# Altium schematic symbol library OPCODE_DECODE.SchLib: 2 symbols
Pins are listed as number, name and electrical type; pins without a type are passive.

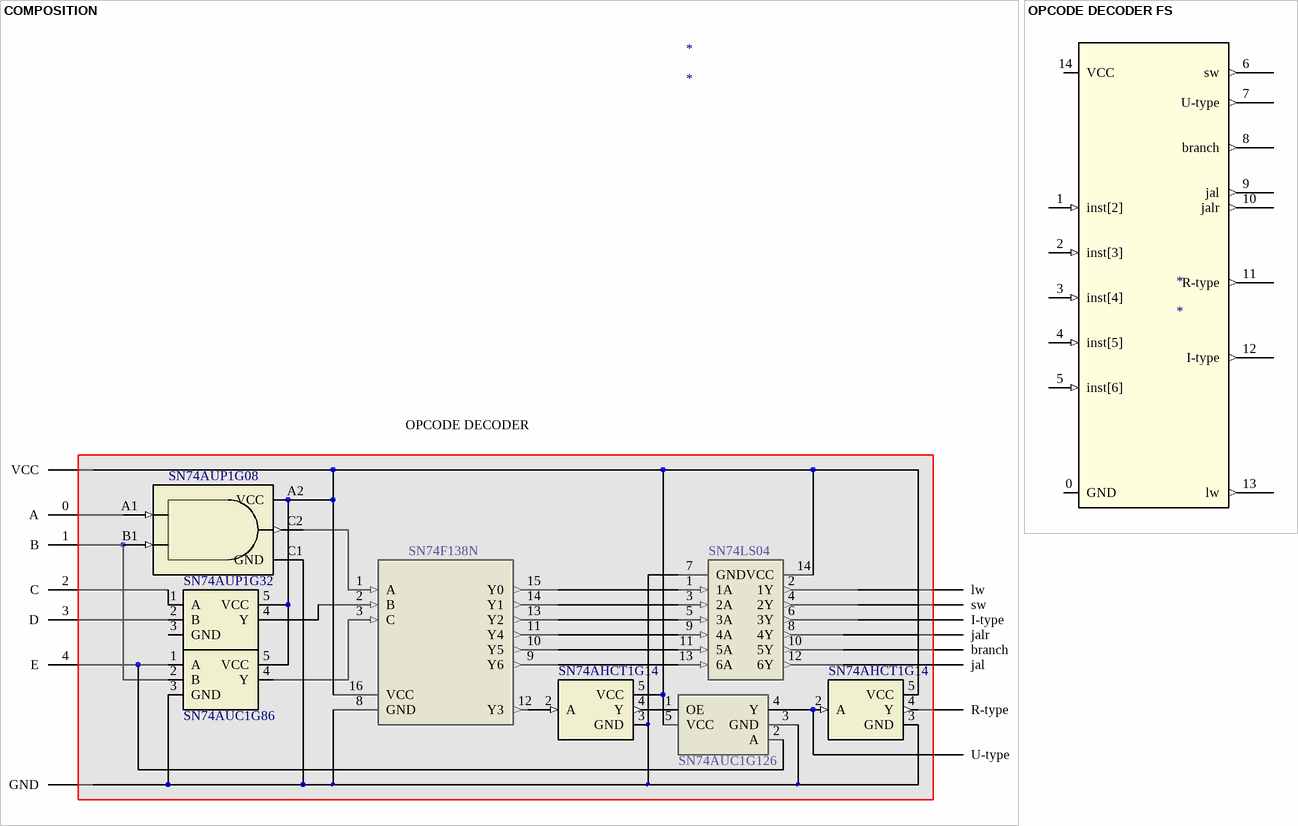
[diagram p0: symbols COMPOSITION to OPCODE DECODER FS]

## COMPOSITION
designator *
pins: 0 A, 1 B, 1 A (in), 1 OE, 1 1A (in), 1 A, 1 A, 2 C, 2 B (in), 2 A, 2 1Y (out), 2 A (in), 2 A (in), 2 B, 2 B, 3 D, 3 C (in), 3 GND, 3 2A (in), 3 GND (power), 3 GND (power), 3 GND, 3 GND, 4 E, 4 Y, 4 2Y (out), 4 Y (out), 4 Y (out), 4 Y, 4 Y, 5 VCC, 5 3A (in), 5 VCC (power), 5 VCC (power), 5 VCC, 5 VCC, 6 3Y (out), 7 GND (power), 8 GND (power), 8 4Y (out), 9 Y6 (out), 9 4A (in), 10 Y5 (out), 10 5Y (out), 11 Y4 (out), 11 5A (in), 12 Y3 (out), 12 6Y (out), 13 Y2 (out), 13 6A (in), 14 Y1 (out), 14 VCC (power), 15 Y0 (out), 16 VCC (power), A1 A (in), A2 VCC (power), B1 B (in), C1 GND (power), C2 Y (out), PCSel VCC, PCSel GND, PCSel lw, PCSel sw, PCSel I-type, PCSel jalr, PCSel branch, PCSel jal, PCSel R-type, PCSel U-type
text: OPCODE DECODER; SN74AUP1G08; SN74F138N; SN74LS04; SN74AUP1G32; SN74AHCT1G14; SN74AUC1G86; SN74AUC1G126

## OPCODE DECODER FS
designator *
pins: 0 GND (power), 1 inst[2] (in), 2 inst[3] (in), 3 inst[4] (in), 4 inst[5] (in), 5 inst[6] (in), 6 sw (out), 7 U-type (out), 8 branch (out), 9 jal (out), 10 jalr (out), 11 R-type (out), 12 I-type (out), 13 lw (out), 14 VCC (power)